# EAGLE library part 555 (library ads)
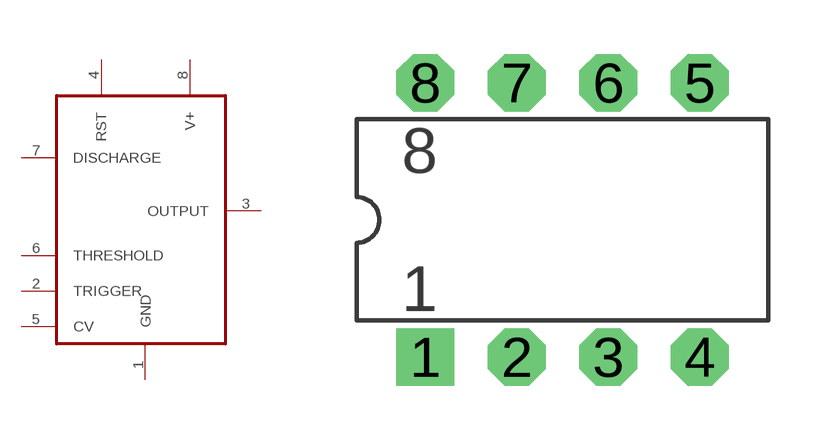
[diagram p18: symbol with the pads of DIP08; footprint DIP08]

Designator prefix IC

## 555  [DIP08]
1  GND  pwr
2  TRIGGER
3  OUTPUT  out
4  RST  in
5  CV
6  THRESHOLD
7  DISCHARGE
8  V+  pwr

## Footprint DIP08 (pad centres in mm)
drill 0.813 pad 1.6 square: 1 1.27,-3.81
drill 0.813 pad 1.6 octagon: 2 3.81,-3.81; 3 6.35,-3.81; 4 8.89,-3.81; 5 8.89,3.81; 6 6.35,3.81; 7 3.81,3.81; 8 1.27,3.81